# EAGLE library part HX11 (library Transformer)
Audio Transformers / Signal Transformers 100BaseTX SMD NonPoE 350uH .65Ohms 1-Port Datasheet <https://productfinder.pulseeng.com/doc_type/WEB301/doc_num/H1102NL/doc_part/H1102NL.pdf>
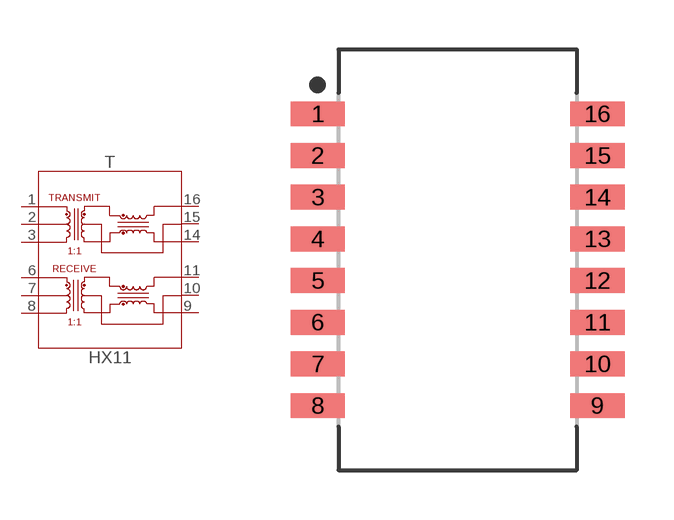
[diagram p1: symbol with the pads of XFMR_H11; footprint XFMR_H11]

Designator prefix T

## HX1188NLT (CATEGORY: Transformer; DESCRIPTION: Audio Transformers / Signal Transformers 100BaseTX SMD NonPoE 350uH .65Ohms 1-Port; MANUFACTURER: Pulse Electronics Network; MPN: HX1188NLT; OPERATING_TEMP: 0°C to 70°C; PART_STATUS: Active; ROHS_COMPLIANT: RoHS Compliant; SUB-CATEGORY: Pulse; VALUE: HX1188NLT)  [XFMR_H11]
1  TD+  pas
2  TCT  pas
3  TD-  pas
6  RD+  pas
7  RCT  pas
8  RD-  pas
9  RX-  pas
10  CMT1  pas
11  RX+  pas
14  TX-  pas
15  CMT2  pas
16  TX+  pas

## Footprint XFMR_H11 (pad centres in mm)
smd 1.65 x 0.76: 1 -4.255,4.445; 2 -4.255,3.175; 3 -4.255,1.905; 4 -4.255,0.635; 5 -4.255,-0.635; 6 -4.255,-1.905; 7 -4.255,-3.175; 8 -4.255,-4.445; 9 4.255,-4.445; 10 4.255,-3.175; 11 4.255,-1.905; 12 4.255,-0.635; 13 4.255,0.635; 14 4.255,1.905; 15 4.255,3.175; 16 4.255,4.445